# EAGLE library part INSECTCHIP2B (library harrison)
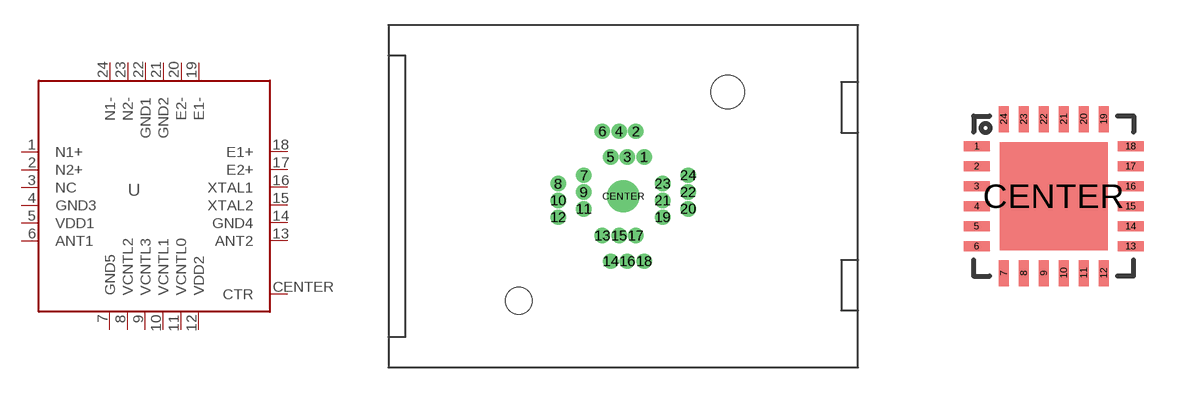
[diagram p41: symbol with the pads of ZIF_QFN24_4_X_4; footprints ZIF_QFN24_4_X_4, QFN24_4_X_4]

Designator prefix U

## INSECTCHIP2BZIF  [ZIF_QFN24_4_X_4]
1  N1+  in
2  N2+  in
3  NC  pas
4  GND3  pwr
5  VDD1  pwr
6  ANT1  pas
7  GND5  pwr
8  VCNTL2  in
9  VCNTL3  in
10  VCNTL1  in
11  VCNTL0  in
12  VDD2  pwr
13  ANT2  pas
14  GND4  pwr
15  XTAL2  pas
16  XTAL1  pas
17  E2+  in
18  E1+  in
19  E1-  in
20  E2-  in
21  GND2  pwr
22  GND1  pwr
23  N2-  in
24  N1-  in
CENTER  CTR  pwr

## INSECTCHIP2BQFN  [QFN24_4_X_4]
Pads as for ZIF_QFN24_4_X_4

## INSECTCHIP2BCOB  [INSECTCHIP2_COB]
Pads as for ZIF_QFN24_4_X_4

## Footprint ZIF_QFN24_4_X_4 (pad centres in mm)
drill 0.41 pad 0.813: 1 1.25,2.35; 2 0.75,3.875; 3 0.25,2.35; 4 -0.25,3.875; 5 -0.75,2.35; 6 -1.25,3.875; 7 -2.35,1.25; 8 -3.875,0.75; 9 -2.35,0.25; 10 -3.875,-0.25; 11 -2.35,-0.75; 12 -3.875,-1.25; 13 -1.25,-2.35; 14 -0.75,-3.875; 15 -0.25,-2.35; 16 0.25,-3.875; 17 0.75,-2.35; 18 1.25,-3.875; 19 2.35,-1.25; 20 3.875,-0.75; 21 2.35,-0.25; 22 3.875,0.25; 23 2.35,0.75; 24 3.875,1.25
drill 1.02 pad 1.93: CENTER 0,0
hole 1.6 at -6.23,-6.23
hole 2 at 6.22,6.22

## Footprint QFN24_4_X_4 (pad centres in mm)
smd 0.65 x 0.25: 1 -1.925,1.25; 2 -1.925,0.75; 3 -1.925,0.25; 4 -1.925,-0.25; 5 -1.925,-0.75; 6 -1.925,-1.25; 13 1.925,-1.25; 14 1.925,-0.75; 15 1.925,-0.25; 16 1.925,0.25; 17 1.925,0.75; 18 1.925,1.25
smd 0.25 x 0.65: 7 -1.25,-1.925; 8 -0.75,-1.925; 9 -0.25,-1.925; 10 0.25,-1.925; 11 0.75,-1.925; 12 1.25,-1.925; 19 1.25,1.925; 20 0.75,1.925; 21 0.25,1.925; 22 -0.25,1.925; 23 -0.75,1.925; 24 -1.25,1.925
smd 2.7 x 2.7: CENTER 0,0

## Footprint INSECTCHIP2_COB (pad centres in mm)
smd 0.254 x 0.254: 1 -1.714,1.27; 2 -1.714,0.762; 3 -1.714,0.254; 4 -1.714,-0.254; 5 -1.714,-0.762; 6 -1.714,-1.27; 7 -1.27,-1.714; 8 -0.762,-1.714; 9 -0.254,-1.714; 10 0.254,-1.714; 11 0.762,-1.714; 12 1.27,-1.714; 13 1.714,-1.27; 14 1.714,-0.762; 15 1.714,-0.254; 16 1.714,0.254; 17 1.714,0.762; 18 1.714,1.27; 19 1.27,1.714; 20 0.762,1.714; 21 0.254,1.714; 22 -0.254,1.714; 23 -0.762,1.714; 24 -1.27,1.714
smd 2.413 x 2.413: CENTER 0,0